# Altium footprint library x-NXP_LFPAK33.PcbLib: 1 footprints
Each footprint in its own frame and in the unit in brackets; x right, y up, seen from the top. Pads: shape width x height; smd on the part's side, far side on the other; paste and mask are expansions set on the pad; w line width, h text height; cw(c..) or ccw(c..) is an arc to the next point about the centre after c.
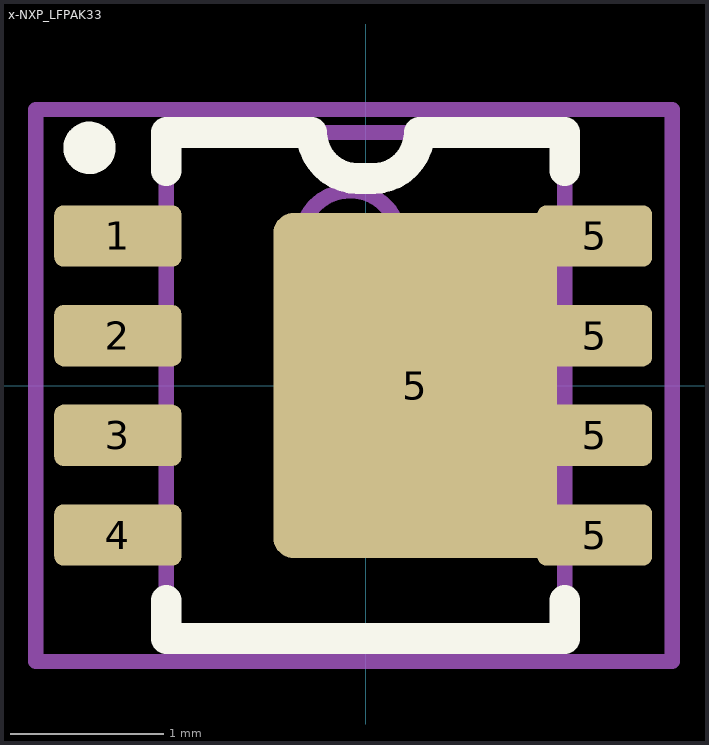
[diagram p0: the footprint, top view; thin cyan lines are the x and y axes]

## x-NXP_LFPAK33 [mm] "Plastic single ended surface mounted package (LFPAK33); 5 Terminals"
height 0.9
pads (9):
  rrect30% 0.83x0.4 smd paste-2 mask+0.05: 1(-1.615,0.975) 2(-1.615,0.325) 3(-1.615,-0.325) 4(-1.615,-0.975)
  rrect14% 1.85x2.25 smd paste-2 mask+0.05: 5(0.325,0)
  rrect30% 0.75x0.4 smd paste-2 mask+0.05: 5(1.495,-0.975) 5(1.495,-0.325) 5(1.495,0.325) 5(1.495,0.975)
Top Overlay:
  circle w0.2: c-1.8,1.55 r0.071
  lines w0.2: -1.3,-1.4 -1.3,-1.65 0.25,-1.65 1.3,-1.65 1.3,-1.4 ; -1.3,1.4 -1.3,1.65 -0.35,1.65 ccw(c-0.05,1.65) -0.05,1.35 0.05,1.35 ccw(c0.05,1.65) 0.35,1.65 1.3,1.65 1.3,1.4
Top Paste:
  rectangle: -2.03,0.825 -1.2,1.125
  rectangle: -2.03,0.175 -1.2,0.475
  rectangle: -2.03,-0.475 -1.2,-0.175
  rectangle: -2.03,-1.125 -1.2,-0.825
  rectangle: 1.12,-1.125 1.87,-0.825
  rectangle: 1.12,-0.475 1.87,-0.175
  rectangle: 1.12,0.175 1.87,0.475
  rectangle: 1.12,0.825 1.87,1.125
  rectangle: -0.55,-0.943 -0.04,-0.308
  rectangle: -0.55,0.309 -0.04,0.944
  rectangle: 0.31,0.309 0.82,0.944
  rectangle: 0.31,-0.943 0.82,-0.308
Mechanical 13:
  circle w0.1: c-0.1,0.95 r0.32
  lines w0.1: -1.3,-1.65 1.3,-1.65 ; -1.3,-1.65 -1.3,1.65 1.3,1.65 1.3,-1.65 ; -1.3,-1.65 1.3,-1.65
Mechanical 15:
  lines w0.1: -0.4,0 0.4,0 ; 0,-0.4 0,0.4 ; -2.15,-1.8 2,-1.8 2,1.8 -1.75,1.8 -2.15,1.8 -2.15,-1.8
3D body: height 0.9, standoff 0, extent -1.299,-1.649 1.299,1.649